# Altium footprint library Connector_BarrelJack.PcbLib: 10 footprints
Each footprint in its own frame and in the unit in brackets; x right, y up, seen from the top. Pads: shape width x height; smd on the part's side, far side on the other; paste and mask are expansions set on the pad; w line width, h text height; cw(c..) or ccw(c..) is an arc to the next point about the centre after c.
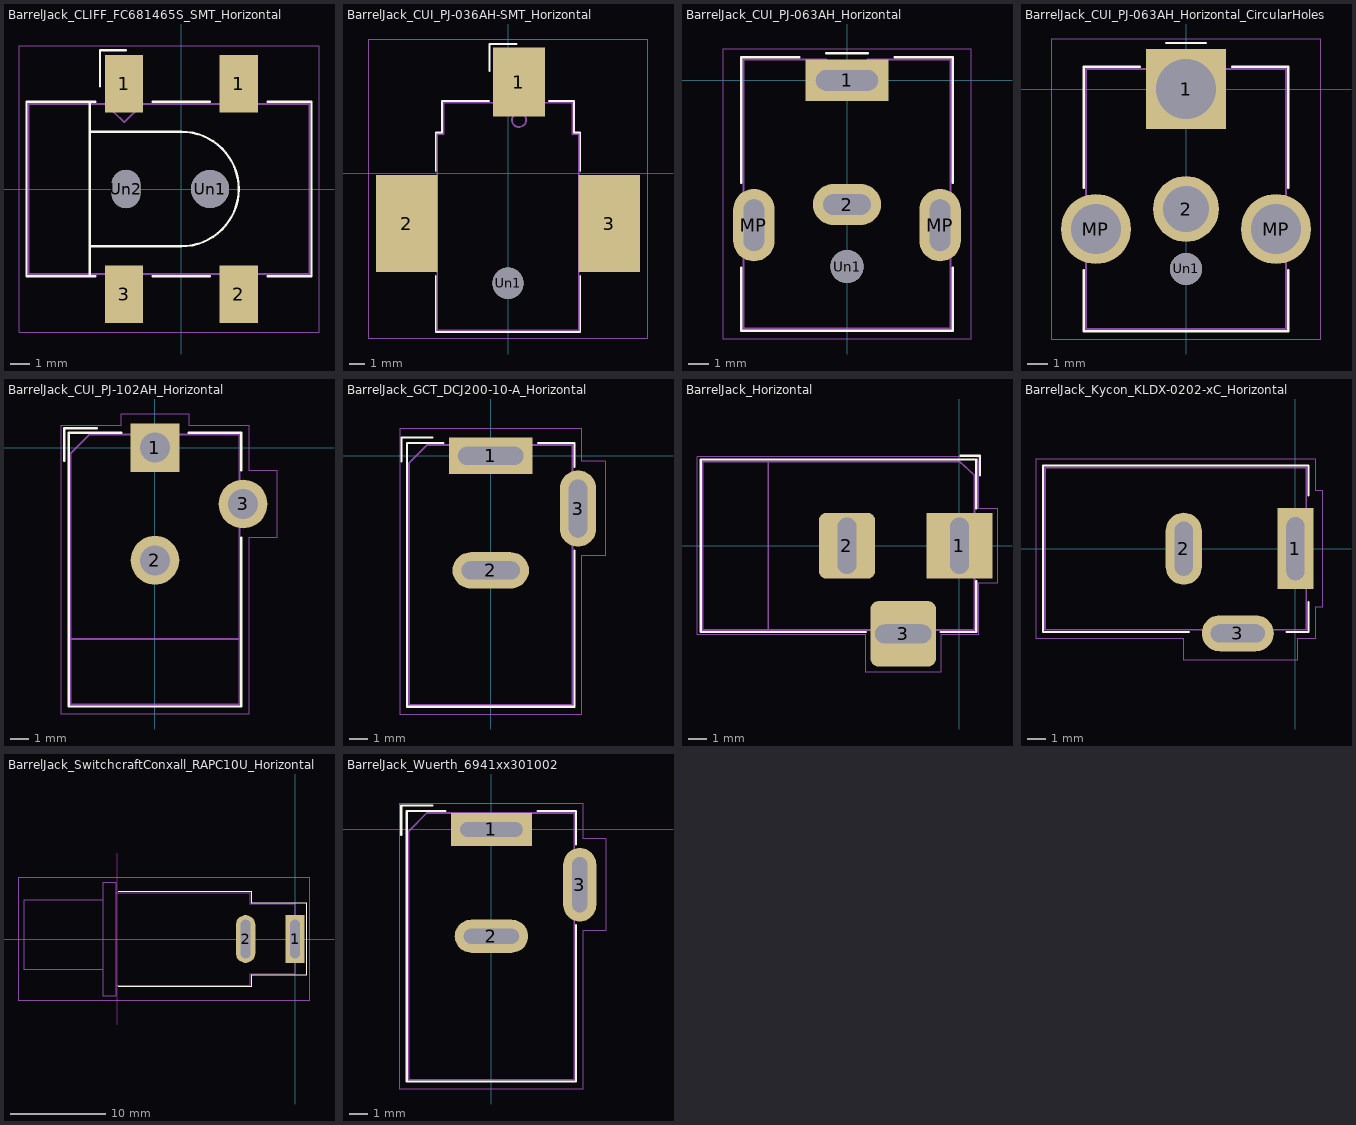
[diagram p0: the footprints below, top view; thin cyan lines are the x and y axes]

## BarrelJack_CLIFF_FC681465S_SMT_Horizontal [mm]
pads (6):
  rect 2x3 smd: 1(-3,5.5) 1(3,5.5) 2(3,-5.5) 3(-3,-5.5)
  round 2 hole 2: Un1(1.5,0)
  rrect100% 1.5x2 hole 1.5 slot 2 at 90 deg: Un2(-2.9,0)
F.SilkS:
  lines w0.12: -4.8,-4.56 -4.8,4.56 ; -4.8,-3 0,-3 ccw(c0,0) 0,3 -4.8,3 ; -4.5,-4.56 -8.11,-4.56 -8.11,4.56 -4.5,4.56 ; -4.26,5.36 -4.26,7.26 -2.92,7.26 ; -1.5,-4.56 1.5,-4.56 ; -1.5,4.56 1.5,4.56 ; 4.5,-4.56 6.81,-4.56 6.81,4.56 4.5,4.56
F.CrtYd:
  lines w0.05: -8.5,-7.5 -8.5,7.5 7.2,7.5 7.2,-7.5 -8.5,-7.5
F.Fab:
  lines w0.1: -8,-4.45 -8,4.45 -4,4.45 -3,3.5 -2,4.45 6.7,4.45 6.7,-4.45 -8,-4.45
  text "'.Designator'" at -4.547,-1.34 h1

## BarrelJack_CUI_PJ-036AH-SMT_Horizontal [mm]
pads (4):
  rect 3.3x4.4 smd: 1(0.7,5.8)
  rect 3.9x6.2 smd: 2(-6.45,-3.2) 3(6.45,-3.2)
  round 2 hole 2: Un1(0,-7)
F.SilkS:
  lines w0.12: -4.6,-6.55 -4.6,-10.1 4.6,-10.1 4.6,-6.55 ; -4.6,0.15 -4.6,2.6 -4.2,2.6 -4.2,4.6 -1.2,4.6 ; -1.19,6.5 -1.19,8.24 0.55,8.24 ; 2.6,4.6 4.2,4.6 4.2,2.6 4.6,2.6 4.6,0.15
F.CrtYd:
  lines w0.05: -8.9,-10.5 8.9,-10.5 8.9,8.5 -8.9,8.5 -8.9,-10.5
F.Fab:
  circle w0.12: c0.7,3.4 r0.453
  lines w0.1: -4.5,-10 4.5,-10 4.5,2.5 4.1,2.5 4.1,4.5 -4.1,4.5 -4.1,2.5 -4.5,2.5 -4.5,-10
  text "'.Designator'" at -4.047,-0.84 h1

## BarrelJack_CUI_PJ-063AH_Horizontal [mm]
pads (5):
  rect 4x2 hole 1 slot 3 at 0 deg: 1(0,0)
  rrect100% 3.3x2 hole 1 slot 2.3 at 0 deg: 2(0,-6)
  rrect100% 2x3.5 hole 2.5 slot 1 at 0 deg: MP(-4.5,-7) MP(4.5,-7)
  round 1.6 hole 1.6: Un1(0,-9)
F.SilkS:
  lines w0.12: -5.11,-9.05 -5.11,-12.11 5.11,-12.11 5.11,-9.05 ; -5.11,-4.95 -5.11,1.11 -2.3,1.11 ; -1,1.3 1,1.3 ; 2.3,1.11 5.11,1.11 5.11,-4.95
F.CrtYd:
  lines w0.05: -6,-12.5 -6,1.5 6,1.5 6,-12.5 -6,-12.5
F.Fab:
  lines w0.1: -5,-12 -5,1 -1,1 0,0 1,1 5,1 5,-12 -5,-12
  text "'.Designator'" at -4.047,-6.34 h1

## BarrelJack_CUI_PJ-063AH_Horizontal_CircularHoles [mm]
pads (5):
  rect 4x4 hole 3: 1(0,0)
  round 3.3 hole 2.3: 2(0,-6)
  round 3.5 hole 2.5: MP(-4.5,-7) MP(4.5,-7)
  round 1.6 hole 1.6: Un1(0,-9)
F.SilkS:
  lines w0.12: -5.11,-9.05 -5.11,-12.11 5.11,-12.11 5.11,-9.05 ; -5.11,-4.95 -5.11,1.11 -2.3,1.11 ; -1,2.3 1,2.3 ; 2.3,1.11 5.11,1.11 5.11,-4.95
F.CrtYd:
  lines w0.05: -6.75,-12.5 6.75,-12.5 6.75,2.5 -6.75,2.5 -6.75,-12.5
F.Fab:
  lines w0.1: -5,-12 5,-12 5,1 1,1 0,0 -1,1 -5,1 -5,-12
  text "'.Designator'" at -4.047,-6.34 h1

## BarrelJack_CUI_PJ-102AH_Horizontal [mm]
pads (3):
  rect 2.6x2.6 hole 1.6: 1(0,0)
  round 2.6 hole 1.6: 2(0,-6) 3(4.7,-3)
F.SilkS:
  lines w0.12: -4.84,-0.7 -4.84,1.04 -3.1,1.04 ; -1.8,0.8 -4.6,0.8 -4.6,-13.8 4.6,-13.8 4.6,-4.8 ; 1.8,0.8 4.6,0.8 4.6,-1.2
F.CrtYd:
  lines w0.05: -5,-14.2 5,-14.2 5,-4.8 6.5,-4.8 6.5,-1.2 5,-1.2 5,1.2 1.8,1.2 1.8,1.8 -1.8,1.8 -1.8,1.2 -5,1.2 -5,-14.2
F.Fab:
  lines w0.1: -4.5,-10.2 4.5,-10.2 ; -4.5,-13.7 4.5,-13.7 4.5,0.7 -3.5,0.7 -4.5,-0.3 -4.5,-13.7
  text "'.Designator'" at -4.047,-7.34 h1

## BarrelJack_GCT_DCJ200-10-A_Horizontal [mm]
pads (3):
  rect 4.6x2 hole 1 slot 3.6 at 0 deg: 1(0,0)
  rrect100% 4.2x2 hole 1 slot 3.2 at 0 deg: 2(0,-6.3)
  rrect100% 2x4.2 hole 3.2 slot 1 at 0 deg: 3(4.8,-2.9)
F.SilkS:
  lines w0.12: -4.9,-0.3 -4.9,1 -3.2,1 ; -2.6,0.7 -4.6,0.7 -4.6,-13.8 4.6,-13.8 4.6,-5.2 ; 2.6,0.7 4.6,0.7 4.6,-0.6
F.CrtYd:
  lines w0.05: -5,-14.2 5,-14.2 5,-5.5 6.3,-5.5 6.3,-0.3 5,-0.3 5,1.5 -5,1.5 -5,-14.2
F.Fab:
  lines w0.1: -4.5,-13.7 -4.5,-0.4 -3.5,0.6 4.5,0.6 4.5,-13.7 -4.5,-13.7
  text "'.Designator'" at -4.047,-3.84 h1

## BarrelJack_Horizontal [mm]
pads (3):
  rect 3.5x3.5 hole 3 slot 1 at 0 deg: 1(0,0)
  rrect25% 3x3.5 hole 3 slot 1 at 0 deg: 2(-6,0)
  rrect25% 3.5x3.5 hole 1 slot 3 at 0 deg: 3(-3,-4.7)
F.SilkS:
  lines w0.12: -5,-4.6 -13.8,-4.6 -13.8,4.6 0.9,4.6 0.9,2 ; -1,-4.6 0.9,-4.6 0.9,-1.9 ; 0.05,4.8 1.1,4.8 1.1,3.75
F.CrtYd:
  lines w0.05: -14,-4.75 -14,4.75 1,4.75 1,4.5 1,2 2,2 2,-2 1,-2 1,-4.75 -1,-4.75 -1,-6.75 -5,-6.75 -5,-4.75 -14,-4.75
F.Fab:
  lines w0.1: -10.2,-4.5 -10.2,4.5 ; -0.003,4.505 0.8,3.75 0.8,-4.5 -13.7,-4.5 -13.7,4.5 0,4.5
  text "'.Designator'" at -7.047,2.11 h1

## BarrelJack_Kycon_KLDX-0202-xC_Horizontal [mm]
pads (3):
  rect 2x4.5 hole 3.5 slot 1 at 0 deg: 1(0,0)
  rrect100% 2x4 hole 3 slot 1 at 0 deg: 2(-6.2,0)
  rrect100% 4x2 hole 3 slot 1 at 90 deg: 3(-3.2,-4.7)
F.SilkS:
  lines w0.12: -5.9,-4.62 -14.02,-4.62 -14.02,4.62 0.72,4.62 0.72,2.95 ; -0.5,-4.62 0.72,-4.62 0.72,-2.95
F.CrtYd:
  lines w0.05: -14.4,-5 -6.2,-5 -6.2,-6.2 0.1,-6.2 0.1,-5 1.1,-5 1.1,-3.25 1.5,-3.25 1.5,3.25 1.1,3.25 1.1,5 -14.4,5 -14.4,-5
F.Fab:
  lines w0.1: -13.9,-4.5 -13.9,4.5 0.6,4.5 0.6,-4.5 -13.9,-4.5
  text "'.Designator'" at -6.947,-0.84 h1

## BarrelJack_SwitchcraftConxall_RAPC10U_Horizontal [mm]
pads (2):
  rect 2.02x5.02 hole 4.02 slot 1.02 at 0 deg: 1(0,0)
  rrect100% 2.02x5.02 hole 4.02 slot 1.02 at 0 deg: 2(-5.18,0)
F.SilkS:
  lines w0.12: -18.55,-4.945 -4.55,-4.945 -4.55,-3.74 1.22,-3.74 1.22,3.74 -4.55,3.74 -4.55,4.945 -18.55,4.945
Edge.Cuts:
  lines w0.12: -18.67,-9 -18.67,9
F.CrtYd:
  lines w0.05: -28.93,-6.47 1.51,-6.47 1.51,6.47 -28.93,6.47 -28.93,-6.47
F.Fab:
  lines w0.1: -20.17,-3.175 -28.43,-3.175 -28.43,4.065 -20.17,4.065 ; -18.77,-4.825 -4.67,-4.825 ; -18.77,4.825 -4.67,4.825 ; -4.67,-4.8 -4.67,-3.62 0,-3.62 0,3.62 -4.67,3.62 -4.67,4.8 ; -20.17,-5.97 -18.77,-5.97 -18.77,5.97 -20.17,5.97 -20.17,-5.97
  text "'.Designator'" at -14.447,-0.84 h1

## BarrelJack_Wuerth_6941xx301002 [mm]
pads (3):
  rect 4.4x1.8 hole 0.8 slot 3.4 at 0 deg: 1(0,0)
  rrect100% 4x1.8 hole 0.8 slot 3 at 0 deg: 2(0,-5.8)
  rrect100% 1.8x4 hole 0.8 slot 3 at 90 deg: 3(4.8,-3)
F.SilkS:
  lines w0.12: -4.9,-0.3 -4.9,1.3 -3.2,1.3 ; -2.5,1 -4.6,1 -4.6,-13.7 4.6,-13.7 4.6,-5.2 ; 2.5,1 4.6,1 4.6,-0.8
F.CrtYd:
  lines w0.05: -5,-14.1 5,-14.1 5,-5.5 6.2,-5.5 6.2,-0.5 5,-0.5 5,1.4 -5,1.4 -5,-14.1
F.Fab:
  lines w0.1: -4.5,-13.6 4.5,-13.6 4.5,0.9 -3.5,0.9 -4.5,-0.1 -4.5,-13.6
  text "'.Designator'" at -4.047,-8.34 h1